# EAGLE library part TPS82150SILR (library QUAD_ICs)
Buck converter TPS 82150 17-V Input 1-A Step-Down Converter MicroSiP Module with Integrated Inductor
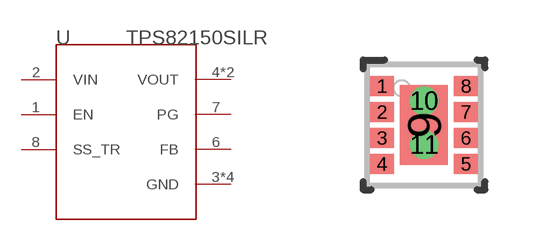
[diagram p12: symbol with the pads of SIL0008D_SMD; footprint SIL0008D_SMD]

Designator prefix U

## TPS82150SILR (MANUFACTURER: Texas Instruments; PARTNUMBER: TPS82150SILR; REFDES: RefDes; TYPE: TYPE; VALUE: Value)  [SIL0008D_SMD]
1  EN  in
2  VIN  pwr
3  GND  pwr
4  VOUT  pwr
5  VOUT  pwr
6  FB  in
7  PG  oc
8  SS_TR  in
9  GND  pwr
10  GND  pwr
11  GND  pwr

## Footprint SIL0008D_SMD (pad centres in mm)
smd 0.6 x 0.5: 1 -1.05,0.975; 2 -1.05,0.325; 3 -1.05,-0.325; 4 -1.05,-0.975; 5 1.05,-0.975; 6 1.05,-0.325; 7 1.05,0.325; 8 1.05,0.975
smd 1.2 x 2: 9 0,0
drill 0.2 pad 0.5: 10 0,0.6; 11 0,-0.5